# EAGLE library part TDA8943SF (library Audio-Power-amlifier V.2.0)
6 W mono Bridge Tied Load (BTL) audio amplifier
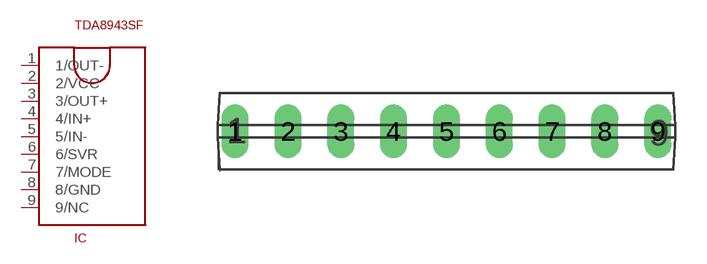
[diagram p44: symbol with the pads of SOT110-1; footprint SOT110-1]

Designator prefix IC

## TDA8943SF  [SOT110-1]
1  1/OUT-  out
2  2/VCC  pwr
3  3/OUT+  out
4  4/IN+  in
5  5/IN-  in
6  6/SVR
7  7/MODE
8  8/GND  pwr
9  9/NC  nc

## Footprint SOT110-1 (pad centres in mm)
SIL9MPF: plastic single in-line medium power package with fin; 9 leads
drill 0.8 long: 1 -10.16,0; 2 -7.62,0; 3 -5.08,0; 4 -2.54,0; 5 0,0; 6 2.54,0; 7 5.08,0; 8 7.62,0; 9 10.16,0